# EAGLE library part CD4541BCN (library Fairchild_By_element14_Batch_1)
Programmable Timer
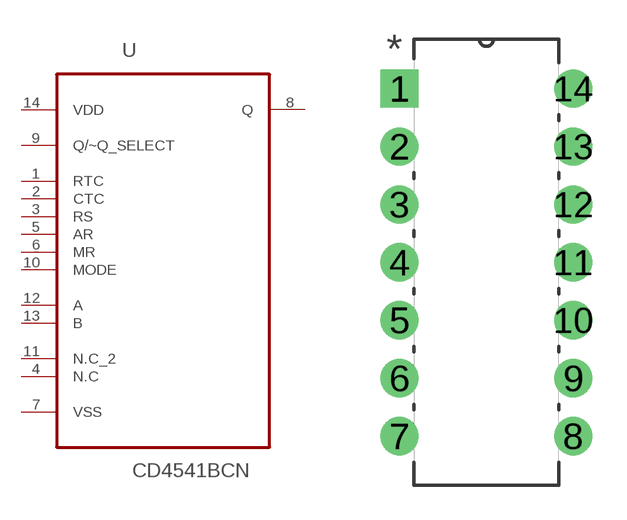
[diagram p177: symbol with the pads of DIP254P762X508-14; footprint DIP254P762X508-14]

Designator prefix U

## CD4541BCN (MPN: CD4541BCN; OC_FARNELL: 1014049; OC_NEWARK: 18C6112; PACKAGE: PDIP-14; SUPPLIER: Fairchild)  [DIP254P762X508-14]
1  RTC  in
2  CTC  in
3  RS  in
4  N.C  nc
5  AR  in
6  MR  pas
7  VSS  pas
8  Q  out
9  Q/~Q_SELECT  in
10  MODE  in
11  N.C_2  nc
12  A  in
13  B  in
14  VDD  pwr

## Footprint DIP254P762X508-14 (pad centres in mm)
drill 1.118 square: 1 -7.62,15.24
drill 1.118: 2 -7.62,12.7; 3 -7.62,10.16; 4 -7.62,7.62; 5 -7.62,5.08; 6 -7.62,2.54; 7 -7.62,0; 8 0,0; 9 0,2.54; 10 0,5.08; 11 0,7.62; 12 0,10.16; 13 0,12.7; 14 0,15.24